# Altium footprint library 4312560587X6.PcbLib: 1 footprints
Each footprint in its own frame and in the unit in brackets; x right, y up, seen from the top. Pads: shape width x height; smd on the part's side, far side on the other; paste and mask are expansions set on the pad; w line width, h text height; cw(c..) or ccw(c..) is an arc to the next point about the centre after c.
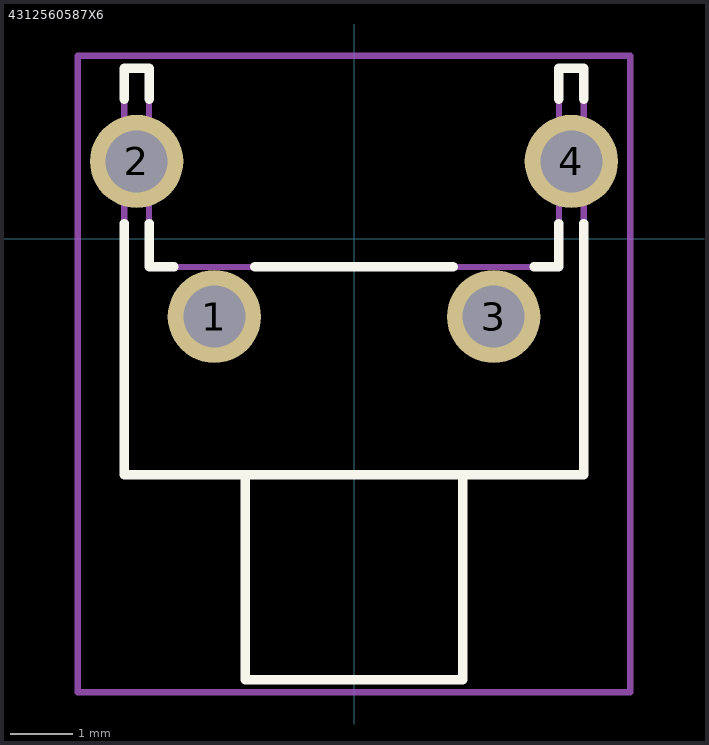
[diagram p0: the footprint, top view; thin cyan lines are the x and y axes]

## 4312560587X6 [mm]
pads (4):
  round 1.5 hole 1: 1(-2.25,-1.25) 2(-3.5,1.25) 3(2.25,-1.25) 4(3.5,1.25)
Top Overlay:
  lines w0.15: -3.7,0.25 -3.7,-3.8 3.7,-3.8 3.7,0.25 ; -3.7,2.25 -3.7,2.75 -3.3,2.75 -3.3,2.25 ; -3.3,0.25 -3.3,-0.45 -2.9,-0.45 ; -1.75,-3.8 -1.75,-7.1 1.75,-7.1 1.75,-3.8 ; -1.6,-0.45 1.6,-0.45 ; 2.9,-0.45 3.3,-0.45 3.3,0.25 ; 3.3,2.25 3.3,2.75 3.7,2.75 3.7,2.25
Top Assembly:
  lines w0.1: -1.75,-3.8 -1.75,-7.1 1.75,-7.1 1.75,-3.8 ; -3.7,-3.8 3.7,-3.8 3.7,2.75 3.3,2.75 3.3,-0.45 -3.3,-0.45 -3.3,2.75 -3.7,2.75 -3.7,-3.8
Top Courtyard:
  lines w0.1: -4.45,-7.3 4.45,-7.3 4.45,2.95 -4.45,2.95 -4.45,-7.3
3D body "4312560587x6.stp": height 7.25, standoff -3.45, extent -4.2,-7.1 4.2,2.75